# EAGLE library part SBH21-NBPN-D07-ST-BK (library SBH21-NBPN-D07-ST-BK)
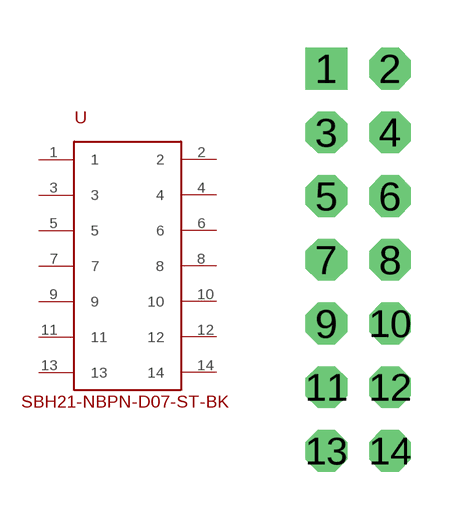
[diagram p1: symbol with the pads of SFH21-PPPN-D07-ID-BK; footprint SFH21-PPPN-D07-ID-BK]

Designator prefix -

## SBH21-NBPN-D07-ST-BK  [SFH21-PPPN-D07-ID-BK]
1  1
2  2
3  3
4  4
5  5
6  6
7  7
8  8
9  9
10  10
11  11
12  12
13  13
14  14

## Footprint SFH21-PPPN-D07-ID-BK (pad centres in mm)
drill 0.8 square: 1 -0.82,6.01
drill 0.8 octagon: 2 1.18,6.01; 3 -0.82,4.01; 4 1.18,4.01; 5 -0.82,2.01; 6 1.18,2.01; 7 -0.82,0.01; 8 1.18,0.01; 9 -0.82,-1.99; 10 1.18,-1.99; 11 -0.82,-3.99; 12 1.18,-3.99; 13 -0.82,-5.99; 14 1.18,-5.99